# Altium footprint library Inductor_SMD.PcbLib: 587 footprints (part 15 of 37)
Each footprint in its own frame and in the unit in brackets; x right, y up, seen from the top. Pads: shape width x height; smd on the part's side, far side on the other; paste and mask are expansions set on the pad; w line width, h text height; cw(c..) or ccw(c..) is an arc to the next point about the centre after c.
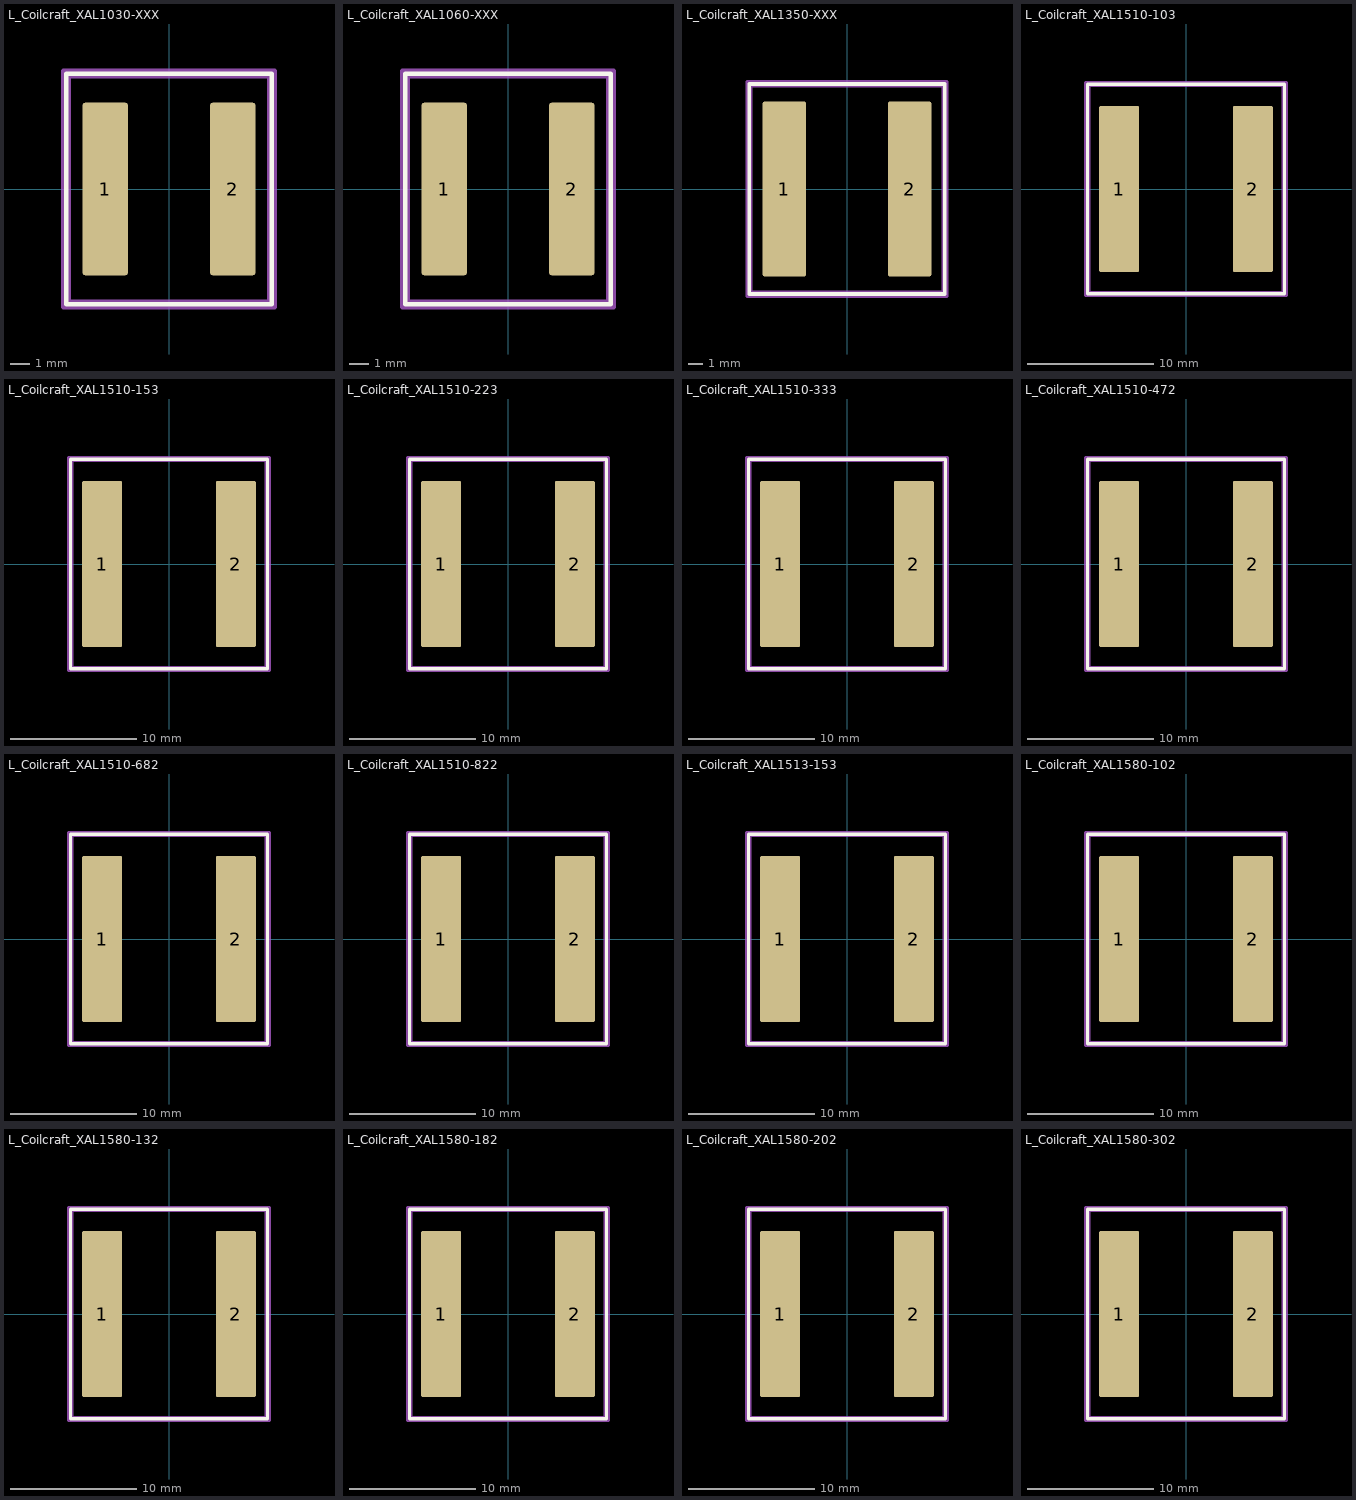
[diagram p14: the footprints below, top view; thin cyan lines are the x and y axes]

## L_Coilcraft_XAL1030-XXX [mm] "L_Coilcraft_XAL1030-XXX"
pads (2):
  rrect11% 2.38x9 smd: 1(-3.325,0) 2(3.325,0)
F.SilkS:
  lines w0.254: -5.36,-6.01 -5.36,6.01 5.36,6.01 5.36,-6.01 -5.36,-6.01
Top Assembly:
  lines w0.254: -5.25,-5.9 -5.25,5.9 5.25,5.9 5.25,-5.9 -5.25,-5.9
  text "'.Designator'" at -4.047,-0.84 h1
Top Courtyard:
  lines w0.254: -5.5,-6.15 -5.5,6.15 5.5,6.15 5.5,-6.15 -5.5,-6.15
Top Designator:
  text ".Designator" at -7.618,-0.508 h1.52
3D body "L_Coilcraft_XAL1030-XXX.step": height 3.1, standoff 0, extent -5.25,-5.9 5.25,5.9

## L_Coilcraft_XAL1060-XXX [mm] "L_Coilcraft_XAL1060-XXX"
pads (2):
  rrect11% 2.38x9 smd: 1(-3.325,0) 2(3.325,0)
F.SilkS:
  lines w0.254: -5.36,-6.01 5.36,-6.01 5.36,6.01 -5.36,6.01 -5.36,-6.01
Top Assembly:
  lines w0.254: -5.25,-5.9 5.25,-5.9 5.25,5.9 -5.25,5.9 -5.25,-5.9
  text "'.Designator'" at -4.047,-0.84 h1
Top Courtyard:
  lines w0.254: -5.5,-6.15 5.5,-6.15 5.5,6.15 -5.5,6.15 -5.5,-6.15
Top Designator:
  text ".Designator" at -7.618,-0.508 h1.52
3D body "L_Coilcraft_XAL1060-XXX.step": height 6, standoff 0, extent -5.25,-5.9 5.25,5.9

## L_Coilcraft_XAL1350-XXX [mm] "L_Coilcraft_XAL1350-XXX"
pads (2):
  rrect8% 2.98x12 smd: 1(-4.3,0) 2(4.3,0)
F.SilkS:
  lines w0.254: -6.71,-7.21 6.71,-7.21 6.71,7.21 -6.71,7.21 -6.71,-7.21
Top Assembly:
  lines w0.254: -6.6,-7.1 6.6,-7.1 6.6,7.1 -6.6,7.1 -6.6,-7.1
  text "'.Designator'" at -4.047,-0.84 h1
Top Courtyard:
  lines w0.254: -6.85,-7.35 6.85,-7.35 6.85,7.35 -6.85,7.35 -6.85,-7.35
Top Designator:
  text ".Designator" at -7.618,-0.508 h1.52
3D body "L_Coilcraft_XAL1350-XXX.step": height 5, standoff 0, extent -6.6,-7.1 6.6,7.1

## L_Coilcraft_XAL1510-103 [mm] "L_Coilcraft_XAL1510-103"
pads (2):
  rrect8% 3.18x13.2 smd: 1(-5.3,0) 2(5.3,0)
F.SilkS:
  lines w0.254: -7.81,-8.31 7.81,-8.31 7.81,8.31 -7.81,8.31 -7.81,-8.31
Top Assembly:
  lines w0.254: -7.7,-8.2 7.7,-8.2 7.7,8.2 -7.7,8.2 -7.7,-8.2
  text "'.Designator'" at -4.047,-0.84 h1
Top Courtyard:
  lines w0.254: -7.95,-8.45 7.95,-8.45 7.95,8.45 -7.95,8.45 -7.95,-8.45
Top Designator:
  text ".Designator" at -7.618,-0.508 h1.52
3D body "L_Coilcraft_XAL1510-103.step": height 10, standoff 0, extent -7.7,-8.2 7.7,8.2

## L_Coilcraft_XAL1510-153 [mm] "L_Coilcraft_XAL1510-153"
pads (2):
  rrect8% 3.18x13.2 smd: 1(-5.3,0) 2(5.3,0)
F.SilkS:
  lines w0.254: -7.81,-8.31 -7.81,8.31 7.81,8.31 7.81,-8.31 -7.81,-8.31
Top Assembly:
  lines w0.254: -7.7,-8.2 -7.7,8.2 7.7,8.2 7.7,-8.2 -7.7,-8.2
  text "'.Designator'" at -4.047,-0.84 h1
Top Courtyard:
  lines w0.254: -7.95,-8.45 -7.95,8.45 7.95,8.45 7.95,-8.45 -7.95,-8.45
Top Designator:
  text ".Designator" at -7.618,-0.508 h1.52
3D body "L_Coilcraft_XAL1510-153.step": height 10, standoff 0, extent -7.7,-8.2 7.7,8.2

## L_Coilcraft_XAL1510-223 [mm] "L_Coilcraft_XAL1510-223"
pads (2):
  rrect8% 3.18x13.2 smd: 1(-5.3,0) 2(5.3,0)
F.SilkS:
  lines w0.254: -7.81,-8.31 -7.81,8.31 7.81,8.31 7.81,-8.31 -7.81,-8.31
Top Assembly:
  lines w0.254: -7.7,-8.2 -7.7,8.2 7.7,8.2 7.7,-8.2 -7.7,-8.2
  text "'.Designator'" at -4.047,-0.84 h1
Top Courtyard:
  lines w0.254: -7.95,-8.45 -7.95,8.45 7.95,8.45 7.95,-8.45 -7.95,-8.45
Top Designator:
  text ".Designator" at -7.618,-0.508 h1.52
3D body "L_Coilcraft_XAL1510-223.step": height 10, standoff 0, extent -7.7,-8.2 7.7,8.2

## L_Coilcraft_XAL1510-333 [mm] "L_Coilcraft_XAL1510-333"
pads (2):
  rrect8% 3.18x13.2 smd: 1(-5.3,0) 2(5.3,0)
F.SilkS:
  lines w0.254: -7.81,-8.31 7.81,-8.31 7.81,8.31 -7.81,8.31 -7.81,-8.31
Top Assembly:
  lines w0.254: -7.7,-8.2 7.7,-8.2 7.7,8.2 -7.7,8.2 -7.7,-8.2
  text "'.Designator'" at -4.047,-0.84 h1
Top Courtyard:
  lines w0.254: -7.95,-8.45 7.95,-8.45 7.95,8.45 -7.95,8.45 -7.95,-8.45
Top Designator:
  text ".Designator" at -7.618,-0.508 h1.52
3D body "L_Coilcraft_XAL1510-333.step": height 11, standoff 0, extent -7.7,-8.2 7.7,8.2

## L_Coilcraft_XAL1510-472 [mm] "L_Coilcraft_XAL1510-472"
pads (2):
  rrect8% 3.18x13.2 smd: 1(-5.3,0) 2(5.3,0)
F.SilkS:
  lines w0.254: -7.81,-8.31 7.81,-8.31 7.81,8.31 -7.81,8.31 -7.81,-8.31
Top Assembly:
  lines w0.254: -7.7,-8.2 7.7,-8.2 7.7,8.2 -7.7,8.2 -7.7,-8.2
  text "'.Designator'" at -4.047,-0.84 h1
Top Courtyard:
  lines w0.254: -7.95,-8.45 7.95,-8.45 7.95,8.45 -7.95,8.45 -7.95,-8.45
Top Designator:
  text ".Designator" at -7.618,-0.508 h1.52
3D body "L_Coilcraft_XAL1510-472.step": height 10, standoff 0, extent -7.7,-8.2 7.7,8.2

## L_Coilcraft_XAL1510-682 [mm] "L_Coilcraft_XAL1510-682"
pads (2):
  rrect8% 3.18x13.2 smd: 1(-5.3,0) 2(5.3,0)
F.SilkS:
  lines w0.254: -7.81,-8.31 -7.81,8.31 7.81,8.31 7.81,-8.31 -7.81,-8.31
Top Assembly:
  lines w0.254: -7.7,-8.2 -7.7,8.2 7.7,8.2 7.7,-8.2 -7.7,-8.2
  text "'.Designator'" at -4.047,-0.84 h1
Top Courtyard:
  lines w0.254: -7.95,-8.45 -7.95,8.45 7.95,8.45 7.95,-8.45 -7.95,-8.45
Top Designator:
  text ".Designator" at -7.618,-0.508 h1.52
3D body "L_Coilcraft_XAL1510-682.step": height 10, standoff 0, extent -7.7,-8.2 7.7,8.2

## L_Coilcraft_XAL1510-822 [mm] "L_Coilcraft_XAL1510-822"
pads (2):
  rrect8% 3.18x13.2 smd: 1(-5.3,0) 2(5.3,0)
F.SilkS:
  lines w0.254: -7.81,-8.31 7.81,-8.31 7.81,8.31 -7.81,8.31 -7.81,-8.31
Top Assembly:
  lines w0.254: -7.7,-8.2 7.7,-8.2 7.7,8.2 -7.7,8.2 -7.7,-8.2
  text "'.Designator'" at -4.047,-0.84 h1
Top Courtyard:
  lines w0.254: -7.95,-8.45 7.95,-8.45 7.95,8.45 -7.95,8.45 -7.95,-8.45
Top Designator:
  text ".Designator" at -7.618,-0.508 h1.52
3D body "L_Coilcraft_XAL1510-822.step": height 10, standoff 0, extent -7.7,-8.2 7.7,8.2

## L_Coilcraft_XAL1513-153 [mm] "L_Coilcraft_XAL1513-153"
pads (2):
  rrect8% 3.18x13.2 smd: 1(-5.3,0) 2(5.3,0)
F.SilkS:
  lines w0.254: -7.81,-8.31 7.81,-8.31 7.81,8.31 -7.81,8.31 -7.81,-8.31
Top Assembly:
  lines w0.254: -7.7,-8.2 7.7,-8.2 7.7,8.2 -7.7,8.2 -7.7,-8.2
  text "'.Designator'" at -4.047,-0.84 h1
Top Courtyard:
  lines w0.254: -7.95,-8.45 7.95,-8.45 7.95,8.45 -7.95,8.45 -7.95,-8.45
Top Designator:
  text ".Designator" at -7.618,-0.508 h1.52
3D body "L_Coilcraft_XAL1513-153.step": height 13, standoff 0, extent -7.7,-8.2 7.7,8.2

## L_Coilcraft_XAL1580-102 [mm] "L_Coilcraft_XAL1580-102"
pads (2):
  rrect8% 3.18x13.2 smd: 1(-5.3,0) 2(5.3,0)
F.SilkS:
  lines w0.254: -7.81,-8.31 -7.81,8.31 7.81,8.31 7.81,-8.31 -7.81,-8.31
Top Assembly:
  lines w0.254: -7.7,-8.2 -7.7,8.2 7.7,8.2 7.7,-8.2 -7.7,-8.2
  text "'.Designator'" at -4.047,-0.84 h1
Top Courtyard:
  lines w0.254: -7.95,-8.45 -7.95,8.45 7.95,8.45 7.95,-8.45 -7.95,-8.45
Top Designator:
  text ".Designator" at -7.618,-0.508 h1.52
3D body "L_Coilcraft_XAL1580-102.step": height 8.2, standoff 0, extent -7.7,-8.2 7.7,8.2

## L_Coilcraft_XAL1580-132 [mm] "L_Coilcraft_XAL1580-132"
pads (2):
  rrect8% 3.18x13.2 smd: 1(-5.3,0) 2(5.3,0)
F.SilkS:
  lines w0.254: -7.81,-8.31 7.81,-8.31 7.81,8.31 -7.81,8.31 -7.81,-8.31
Top Assembly:
  lines w0.254: -7.7,-8.2 7.7,-8.2 7.7,8.2 -7.7,8.2 -7.7,-8.2
  text "'.Designator'" at -4.047,-0.84 h1
Top Courtyard:
  lines w0.254: -7.95,-8.45 7.95,-8.45 7.95,8.45 -7.95,8.45 -7.95,-8.45
Top Designator:
  text ".Designator" at -7.618,-0.508 h1.52
3D body "L_Coilcraft_XAL1580-132.step": height 8, standoff 0, extent -7.7,-8.2 7.7,8.2

## L_Coilcraft_XAL1580-182 [mm] "L_Coilcraft_XAL1580-182"
pads (2):
  rrect8% 3.18x13.2 smd: 1(-5.3,0) 2(5.3,0)
F.SilkS:
  lines w0.254: -7.81,-8.31 -7.81,8.31 7.81,8.31 7.81,-8.31 -7.81,-8.31
Top Assembly:
  lines w0.254: -7.7,-8.2 -7.7,8.2 7.7,8.2 7.7,-8.2 -7.7,-8.2
  text "'.Designator'" at -4.047,-0.84 h1
Top Courtyard:
  lines w0.254: -7.95,-8.45 -7.95,8.45 7.95,8.45 7.95,-8.45 -7.95,-8.45
Top Designator:
  text ".Designator" at -7.618,-0.508 h1.52
3D body "L_Coilcraft_XAL1580-182.step": height 8, standoff 0, extent -7.7,-8.2 7.7,8.2

## L_Coilcraft_XAL1580-202 [mm] "L_Coilcraft_XAL1580-202"
pads (2):
  rrect8% 3.18x13.2 smd: 1(-5.3,0) 2(5.3,0)
F.SilkS:
  lines w0.254: -7.81,-8.31 -7.81,8.31 7.81,8.31 7.81,-8.31 -7.81,-8.31
Top Assembly:
  lines w0.254: -7.7,-8.2 -7.7,8.2 7.7,8.2 7.7,-8.2 -7.7,-8.2
  text "'.Designator'" at -4.047,-0.84 h1
Top Courtyard:
  lines w0.254: -7.95,-8.45 -7.95,8.45 7.95,8.45 7.95,-8.45 -7.95,-8.45
Top Designator:
  text ".Designator" at -7.618,-0.508 h1.52
3D body "L_Coilcraft_XAL1580-202.step": height 8, standoff 0, extent -7.7,-8.2 7.7,8.2

## L_Coilcraft_XAL1580-302 [mm] "L_Coilcraft_XAL1580-302"
pads (2):
  rrect8% 3.18x13.2 smd: 1(-5.3,0) 2(5.3,0)
F.SilkS:
  lines w0.254: -7.81,-8.31 -7.81,8.31 7.81,8.31 7.81,-8.31 -7.81,-8.31
Top Assembly:
  lines w0.254: -7.7,-8.2 -7.7,8.2 7.7,8.2 7.7,-8.2 -7.7,-8.2
  text "'.Designator'" at -4.047,-0.84 h1
Top Courtyard:
  lines w0.254: -7.95,-8.45 -7.95,8.45 7.95,8.45 7.95,-8.45 -7.95,-8.45
Top Designator:
  text ".Designator" at -7.618,-0.508 h1.52
3D body "L_Coilcraft_XAL1580-302.step": height 8, standoff 0, extent -7.7,-8.2 7.7,8.2